# Altium schematic symbol library ACS_Board_Components.SchLib: 5 symbols
Pins are listed as number, name and electrical type; pins without a type are passive.

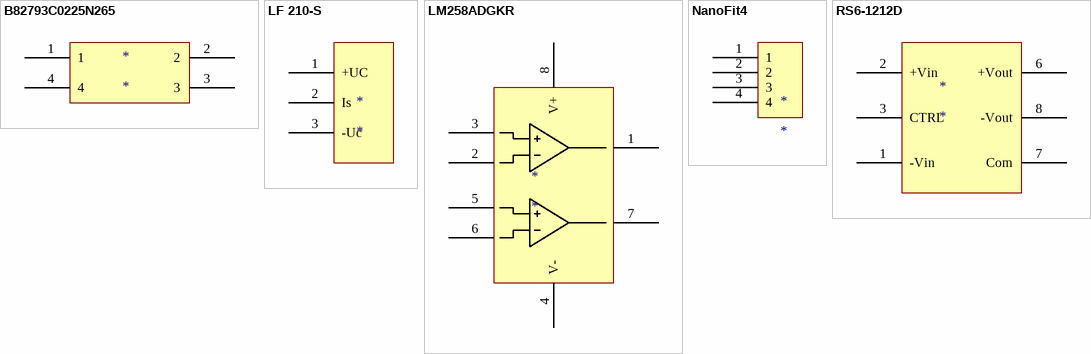
[diagram p0: symbols B82793C0225N265 to RS6-1212D]

## B82793C0225N265
designator *
footprint B82793C0225N265
pins: 1, 2, 3, 4

## LF 210-S
designator *
footprint LF 210-S
pins: 1 +UC, 2 Is, 3 -Uc

## LM258ADGKR
designator *
pins: 1 OUT1, 2 IN1-, 3 IN1+, 4 V-, 5 IN2+, 6 IN2-, 7 OUT2, 8 V+

## NanoFit4
designator *
footprint 1053141304
pins: 1, 2, 3, 4

## RS6-1212D
designator *
footprint RS6-1212D
pins: 1 -Vin, 2 +Vin, 3 CTRL, 6 +Vout, 7 Com, 8 -Vout